# EAGLE library part EMD_RELAY_SPDT_8-PIN (library HUM-ASM-001)
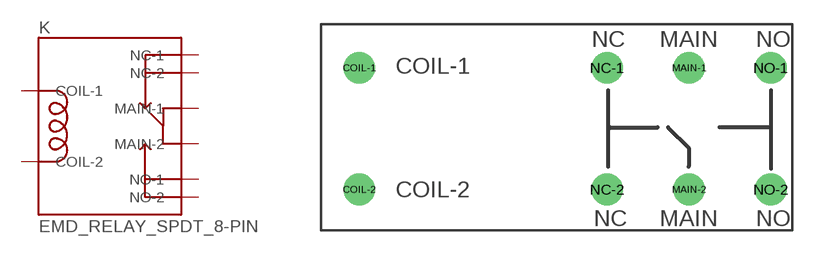
[diagram p9: symbol with the pads of RELAY_TE_7-1393239-7; footprint RELAY_TE_7-1393239-7]

Designator prefix K

## EMD_RELAY_SPDT_8-PIN_TE_7-1393239-7  [RELAY_TE_7-1393239-7]
COIL-1  COIL-1
COIL-2  COIL-2
MAIN-1  MAIN-1
MAIN-2  MAIN-2
NC-1  NC-1
NC-2  NC-2
NO-1  NO-1
NO-2  NO-2

## Footprint RELAY_TE_7-1393239-7 (pad centres in mm)
drill 1.3: COIL-1 -12.15,3.67; COIL-2 -12.15,-3.83; MAIN-1 8.15,3.67; MAIN-2 8.15,-3.83; NC-1 3.11,3.67; NC-2 3.11,-3.83; NO-1 13.19,3.67; NO-2 13.19,-3.83